# Altium integrated library Altium Database Library V2.IntLib: 722 symbols (part 29 of 35)

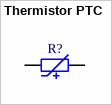
[diagram p571: symbol Thermistor PTC]

## Thermistor PTC
designator R?
SMT Resistor
pins: 1, 2


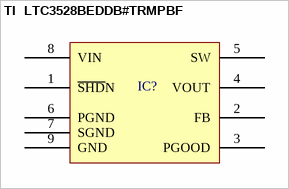
[diagram p572: symbol TI  LTC3528BEDDB#TRMPBF]

## TI  LTC3528BEDDB#TRMPBF
designator IC?
pins: 1 ~{SHD}N, 2 FB, 3 PGOOD, 4 VOUT, 5 SW, 6 PGND, 7 SGND, 8 VIN, 9 GND (power)


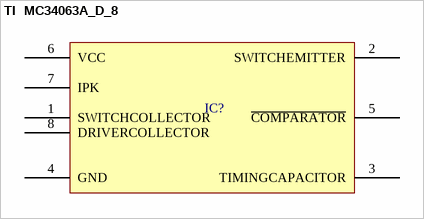
[diagram p573: symbol TI  MC34063A_D_8]

## TI  MC34063A_D_8
designator IC?  (value not drawn)
pins: 1 SWITCHCOLLECTOR, 2 SWITCHEMITTER, 3 TIMINGCAPACITOR, 4 GND, 5 ~{COMPARATOR}, 6 VCC, 7 IPK, 8 DRIVERCOLLECTOR


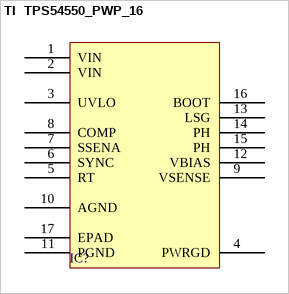
[diagram p574: symbol TI  TPS54550_PWP_16]

## TI  TPS54550_PWP_16
designator IC?  (value not drawn)
pins: 1 VIN, 2 VIN, 3 UVLO, 4 PWRGD, 5 RT, 6 SYNC, 7 SSENA, 8 COMP, 9 VSENSE, 10 AGND, 11 PGND, 12 VBIAS, 13 LSG, 14 PH, 15 PH, 16 BOOT, 17 EPAD


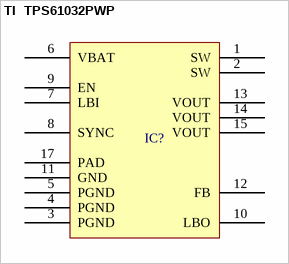
[diagram p575: symbol TI  TPS61032PWP]

## TI  TPS61032PWP
designator IC?  (value not drawn)
pins: 1 SW, 2 SW, 3 PGND, 4 PGND, 5 PGND, 6 VBAT, 7 LBI, 8 SYNC, 9 EN, 10 LBO, 11 GND, 12 FB, 13 VOUT, 14 VOUT, 15 VOUT, 17 PAD


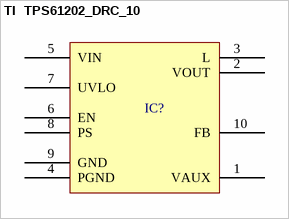
[diagram p576: symbol TI  TPS61202_DRC_10]

## TI  TPS61202_DRC_10
designator IC?  (value not drawn)
pins: 1 VAUX, 2 VOUT, 3 L, 4 PGND, 5 VIN, 6 EN, 7 UVLO, 8 PS, 9 GND, 10 FB


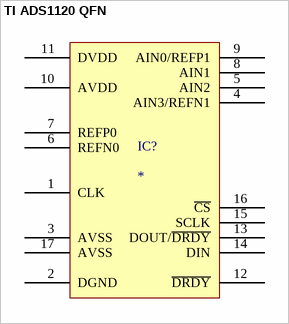
[diagram p577: symbol TI ADS1120 QFN]

## TI ADS1120 QFN
designator IC?
pins: 1 CLK, 2 DGND, 3 AVSS, 4 AIN3/REFN1, 5 AIN2, 6 REFN0, 7 REFP0, 8 AIN1, 9 AIN0/REFP1, 10 AVDD, 11 DVDD, 12 ~{DRDY}, 13 DOUT/~{DRDY}, 14 DIN, 15 SCLK, 16 ~{CS}, 17 AVSS


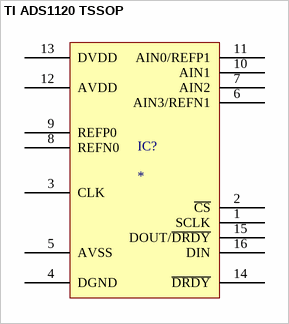
[diagram p578: symbol TI ADS1120 TSSOP]

## TI ADS1120 TSSOP
designator IC?
pins: 1 SCLK, 2 ~{CS}, 3 CLK, 4 DGND, 5 AVSS, 6 AIN3/REFN1, 7 AIN2, 8 REFN0, 9 REFP0, 10 AIN1, 11 AIN0/REFP1, 12 AVDD, 13 DVDD, 14 ~{DRDY}, 15 DOUT/~{DRDY}, 16 DIN


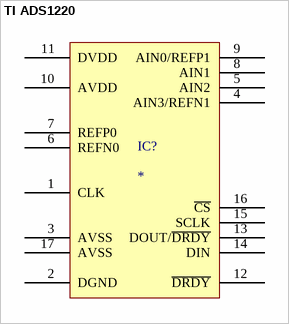
[diagram p579: symbol TI ADS1220]

## TI ADS1220
designator IC?
pins: 1 CLK, 2 DGND, 3 AVSS, 4 AIN3/REFN1, 5 AIN2, 6 REFN0, 7 REFP0, 8 AIN1, 9 AIN0/REFP1, 10 AVDD, 11 DVDD, 12 ~{DRDY}, 13 DOUT/~{DRDY}, 14 DIN, 15 SCLK, 16 ~{CS}, 17 AVSS


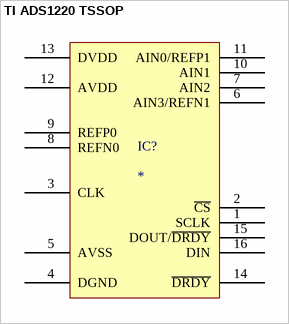
[diagram p580: symbol TI ADS1220 TSSOP]

## TI ADS1220 TSSOP
designator IC?
pins: 1 SCLK, 2 ~{CS}, 3 CLK, 4 DGND, 5 AVSS, 6 AIN3/REFN1, 7 AIN2, 8 REFN0, 9 REFP0, 10 AIN1, 11 AIN0/REFP1, 12 AVDD, 13 DVDD, 14 ~{DRDY}, 15 DOUT/~{DRDY}, 16 DIN


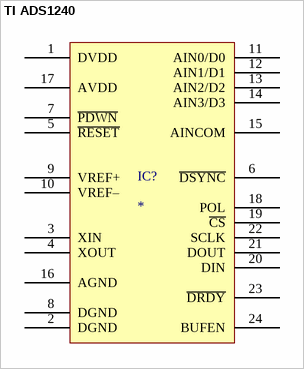
[diagram p581: symbol TI ADS1240]

## TI ADS1240
designator IC?
pins: 1 DVDD, 2 DGND, 3 XIN, 4 XOUT, 5 ~{RESET}, 6 ~{DSYNC}, 7 ~{PDWN}, 8 DGND, 9 VREF+, 10 VREF–, 11 AIN0/D0, 12 AIN1/D1, 13 AIN2/D2, 14 AIN3/D3, 15 AINCOM, 16 AGND, 17 AVDD, 18 POL, 19 ~{CS}, 20 DIN, 21 DOUT, 22 SCLK, 23 ~{DRDY}, 24 BUFEN


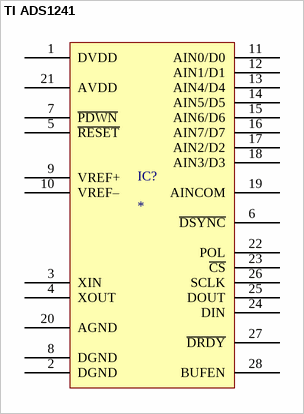
[diagram p582: symbol TI ADS1241]

## TI ADS1241
designator IC?
pins: 1 DVDD, 2 DGND, 3 XIN, 4 XOUT, 5 ~{RESET}, 6 ~{DSYNC}, 7 ~{PDWN}, 8 DGND, 9 VREF+, 10 VREF–, 11 AIN0/D0, 12 AIN1/D1, 13 AIN4/D4, 14 AIN5/D5, 15 AIN6/D6, 16 AIN7/D7, 17 AIN2/D2, 18 AIN3/D3, 19 AINCOM, 20 AGND, 21 AVDD, 22 POL, 23 ~{CS}, 24 DIN, 25 DOUT, 26 SCLK, 27 ~{DRDY}, 28 BUFEN


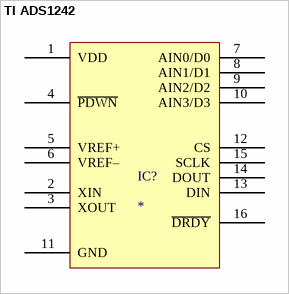
[diagram p583: symbol TI ADS1242]

## TI ADS1242
designator IC?
pins: 1 VDD, 2 XIN, 3 XOUT, 4 ~{PDWN}, 5 VREF+, 6 VREF–, 7 AIN0/D0, 8 AIN1/D1, 9 AIN2/D2, 10 AIN3/D3, 11 GND, 12 CS, 13 DIN, 14 DOUT, 15 SCLK, 16 ~{DRDY}


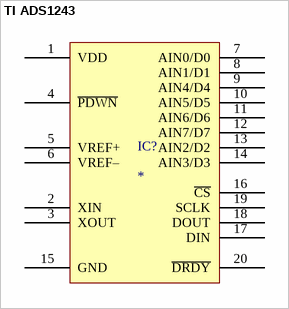
[diagram p584: symbol TI ADS1243]

## TI ADS1243
designator IC?
pins: 1 VDD, 2 XIN, 3 XOUT, 4 ~{PDWN}, 5 VREF+, 6 VREF–, 7 AIN0/D0, 8 AIN1/D1, 9 AIN4/D4, 10 AIN5/D5, 11 AIN6/D6, 12 AIN7/D7, 13 AIN2/D2, 14 AIN3/D3, 15 GND, 16 ~{CS}, 17 DIN, 18 DOUT, 19 SCLK, 20 ~{DRDY}


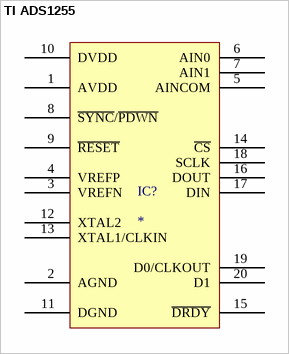
[diagram p585: symbol TI ADS1255]

## TI ADS1255
designator IC?
pins: 1 AVDD, 2 AGND, 3 VREFN, 4 VREFP, 5 AINCOM, 6 AIN0, 7 AIN1, 8 ~{SYNC}/~{PDWN}, 9 ~{RESET}, 10 DVDD, 11 DGND, 12 XTAL2, 13 XTAL1/CLKIN, 14 ~{CS}, 15 ~{DRDY}, 16 DOUT, 17 DIN, 18 SCLK, 19 D0/CLKOUT, 20 D1


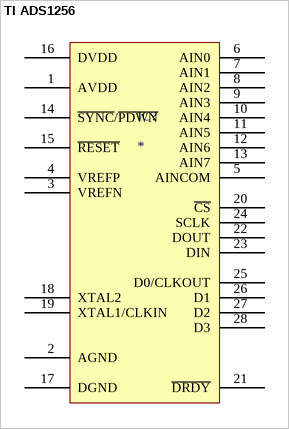
[diagram p586: symbol TI ADS1256]

## TI ADS1256
designator IC?
pins: 1 AVDD, 2 AGND, 3 VREFN, 4 VREFP, 5 AINCOM, 6 AIN0, 7 AIN1, 8 AIN2, 9 AIN3, 10 AIN4, 11 AIN5, 12 AIN6, 13 AIN7, 14 ~{SYNC}/~{PDWN}, 15 ~{RESET}, 16 DVDD, 17 DGND, 18 XTAL2, 19 XTAL1/CLKIN, 20 ~{CS}, 21 ~{DRDY}, 22 DOUT, 23 DIN, 24 SCLK, 25 D0/CLKOUT, 26 D1, 27 D2, 28 D3


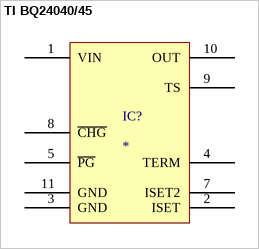
[diagram p587: symbol TI BQ24040/45]

## TI BQ24040/45
designator IC?
pins: 1 VIN, 2 ISET, 3 GND, 4 TERM, 5 ~{PG}, 7 ISET2, 8 ~{CHG}, 9 TS, 10 OUT, 11 GND


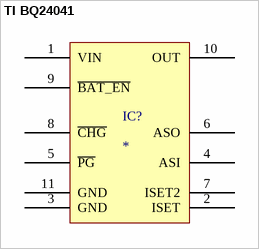
[diagram p588: symbol TI BQ24041]

## TI BQ24041
designator IC?
pins: 1 VIN, 2 ISET, 3 GND, 4 ASI, 5 ~{PG}, 6 ASO, 7 ISET2, 8 ~{CHG}, 9 ~{BAT_EN}, 10 OUT, 11 GND


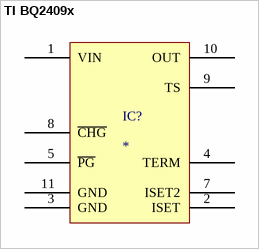
[diagram p589: symbol TI BQ2409x]

## TI BQ2409x
designator IC?
pins: 1 VIN, 2 ISET, 3 GND, 4 TERM, 5 ~{PG}, 7 ISET2, 8 ~{CHG}, 9 TS, 10 OUT, 11 GND


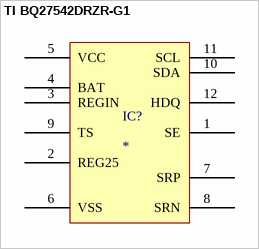
[diagram p590: symbol TI BQ27542DRZR-G1]

## TI BQ27542DRZR-G1
designator IC?
pins: 1 SE, 2 REG25, 3 REGIN, 4 BAT, 5 VCC, 6 VSS, 7 SRP, 8 SRN, 9 TS, 10 SDA, 11 SCL, 12 HDQ


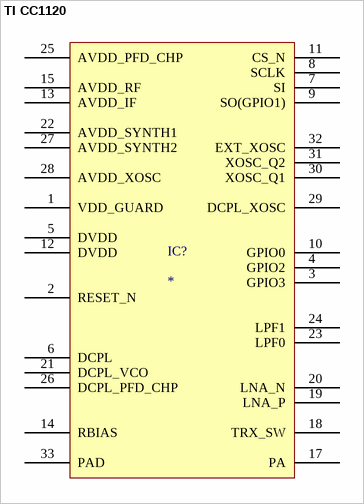
[diagram p591: symbol TI CC1120]

## TI CC1120
designator IC?
pins: 1 VDD_GUARD, 2 RESET_N, 3 GPIO3, 4 GPIO2, 5 DVDD, 6 DCPL, 7 SI, 8 SCLK, 9 SO(GPIO1), 10 GPIO0, 11 CS_N, 12 DVDD, 13 AVDD_IF, 14 RBIAS, 15 AVDD_RF, 17 PA, 18 TRX_SW, 19 LNA_P, 20 LNA_N, 21 DCPL_VCO, 22 AVDD_SYNTH1, 23 LPF0, 24 LPF1, 25 AVDD_PFD_CHP, 26 DCPL_PFD_CHP, 27 AVDD_SYNTH2, 28 AVDD_XOSC, 29 DCPL_XOSC, 30 XOSC_Q1, 31 XOSC_Q2, 32 EXT_XOSC, 33 PAD


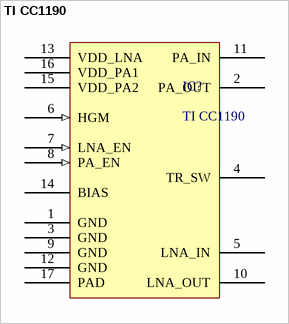
[diagram p592: symbol TI CC1190]

## TI CC1190
designator IC?
850-950MHz RF Front end
pins: 1 GND "Desc1", 2 PA_OUT "Desc1", 3 GND "Desc1", 4 TR_SW "Desc1", 5 LNA_IN "Desc1", 6 HGM (in) "Desc1", 7 LNA_EN (in) "Desc1", 8 PA_EN (in) "Desc1", 9 GND "Desc1", 10 LNA_OUT "Desc1", 11 PA_IN "Desc1", 12 GND "Desc1", 13 VDD_LNA "Desc1", 14 BIAS "Desc1", 15 VDD_PA2 "Desc1", 16 VDD_PA1 "Desc1", 17 PAD "Desc1"


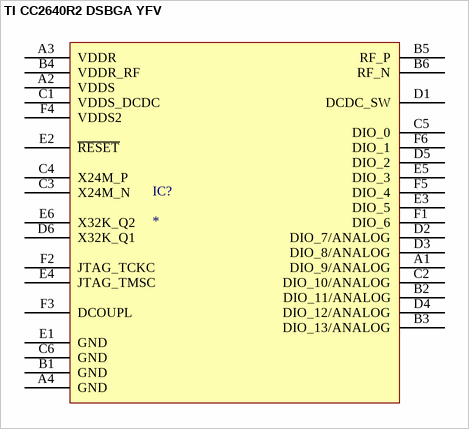
[diagram p593: symbol TI CC2640R2 DSBGA YFV]

## TI CC2640R2 DSBGA YFV
designator IC?
pins: A1 DIO_9/ANALOG, A2 VDDS, A3 VDDR, A4 GND, B1 GND, B2 DIO_11/ANALOG, B3 DIO_13/ANALOG, B4 VDDR_RF, B5 RF_P, B6 RF_N, C1 VDDS_DCDC, C2 DIO_10/ANALOG, C3 X24M_N, C4 X24M_P, C5 DIO_0, C6 GND, D1 DCDC_SW, D2 DIO_7/ANALOG, D3 DIO_8/ANALOG, D4 DIO_12/ANALOG, D5 DIO_2, D6 X32K_Q1, E1 GND, E2 ~{RESET}, E3 DIO_5, E4 JTAG_TMSC, E5 DIO_3, E6 X32K_Q2, F1 DIO_6, F2 JTAG_TCKC, F3 DCOUPL, F4 VDDS2, F5 DIO_4, F6 DIO_1
